# Altium integrated library Altium_Mech.IntLib: 11 symbols
Pins are listed as number, name and electrical type; pins without a type are passive.

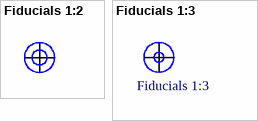
[diagram p0: symbols Fiducials 1:2 to Fiducials 1:3]

## Fiducials 1:2
designator FID?  (value not drawn)  (no BOM)
footprint Fiducials 1:2

## Fiducials 1:3
designator FID?  (no BOM)
footprint Fiducials 1:3


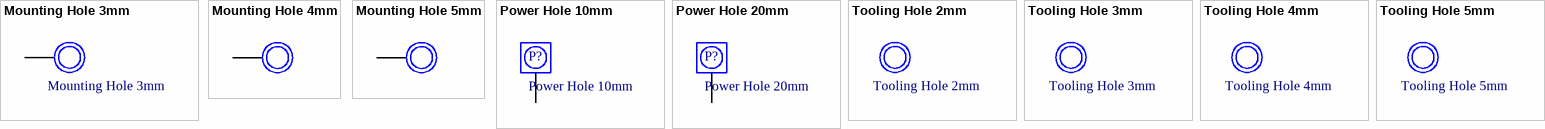
[diagram p1: symbols Mounting Hole 3mm to Tooling Hole 5mm]

## Mounting Hole 3mm
designator H?  (no BOM)
footprint 3mm with via
pins: 0

## Mounting Hole 4mm
designator H?  (value not drawn)  (no BOM)
footprint 4mm with via
pins: 0

## Mounting Hole 5mm
designator H?  (value not drawn)  (no BOM)
footprint 5mm with via
pins: 0

## Power Hole 10mm
designator P?  (no BOM)
footprint POWERHOLE_10MM
pins: 1

## Power Hole 20mm
designator P?  (no BOM)
footprint POWERHOLE_20MM
pins: 1

## Tooling Hole 2mm
designator H?  (no BOM)
footprint 2mm

## Tooling Hole 3mm
designator H?  (no BOM)
footprint 3mm

## Tooling Hole 4mm
designator H?  (no BOM)
footprint 4mm

## Tooling Hole 5mm
designator H?  (no BOM)
footprint 5mm